# EAGLE library part M16C/26A(42PIN) (library renesas_mcu)
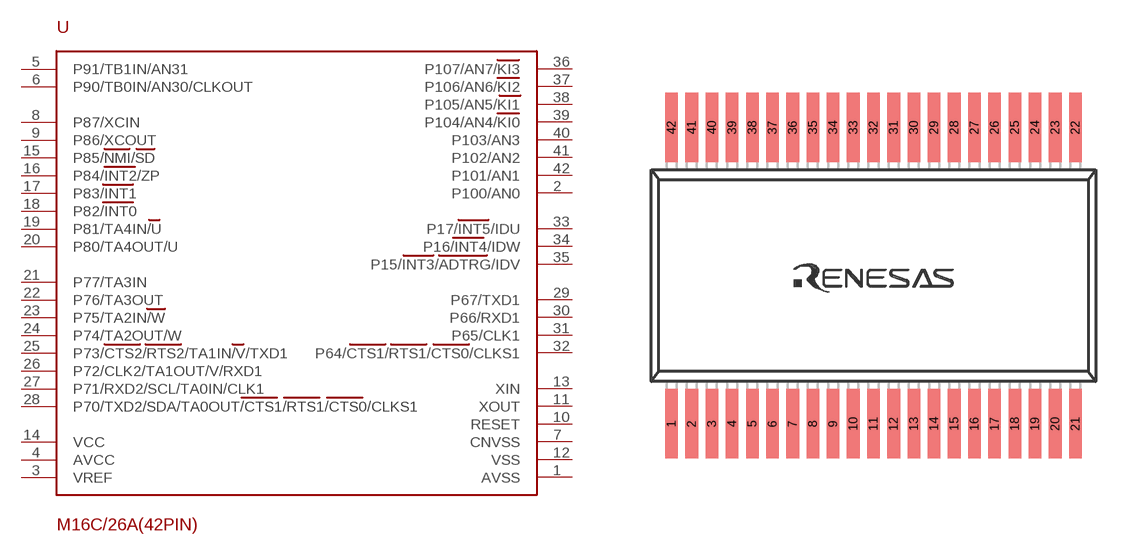
[diagram p85: symbol with the pads of 42P2R-E; footprint 42P2R-E]

Designator prefix -

## M16C/26A(42PIN)  [42P2R-E]
1  AVSS
2  P100/AN0
3  VREF
4  AVCC
5  P91/TB1IN/AN31
6  P90/TB0IN/AN30/CLKOUT
7  CNVSS
8  P87/XCIN
9  P86/XCOUT
10  RESET
11  XOUT
12  VSS
13  XIN
14  VCC
15  P85/NMI/SD
16  P84/INT2/ZP
17  P83/INT1
18  P82/INT0
19  P81/TA4IN/U
20  P80/TA4OUT/U
21  P77/TA3IN
22  P76/TA3OUT
23  P75/TA2IN/W
24  P74/TA2OUT/W
25  P73/CTS2/RTS2/TA1IN/V/TXD1
26  P72/CLK2/TA1OUT/V/RXD1
27  P71/RXD2/SCL/TA0IN/CLK1
28  P70/TXD2/SDA/TA0OUT/CTS1/RTS1/CTS0/CLKS1
29  P67/TXD1
30  P66/RXD1
31  P65/CLK1
32  P64/CTS1/RTS1/CTS0/CLKS1
33  P17/INT5/IDU
34  P16/INT4/IDW
35  P15/INT3/ADTRG/IDV
36  P107/AN7/KI3
37  P106/AN6/KI2
38  P105/AN5/KI1
39  P104/AN4/KI0
40  P103/AN3
41  P102/AN2
42  P101/AN1

## Footprint 42P2R-E (pad centres in mm)
smd 0.5 x 2.75: 1 -8,-5.875; 2 -7.2,-5.875; 3 -6.4,-5.875; 4 -5.6,-5.875; 5 -4.8,-5.875; 6 -4,-5.875; 7 -3.2,-5.875; 8 -2.4,-5.875; 9 -1.6,-5.875; 10 -0.8,-5.875; 11 0,-5.875; 12 0.8,-5.875; 13 1.6,-5.875; 14 2.4,-5.875; 15 3.2,-5.875; 16 4,-5.875; 17 4.8,-5.875; 18 5.6,-5.875; 19 6.4,-5.875; 20 7.2,-5.875; 21 8,-5.875; 22 8,5.875; 23 7.2,5.875; 24 6.4,5.875; 25 5.6,5.875; 26 4.8,5.875; 27 4,5.875; 28 3.2,5.875; 29 2.4,5.875; 30 1.6,5.875; 31 0.8,5.875; 32 0,5.875; 33 -0.8,5.875; 34 -1.6,5.875; 35 -2.4,5.875; 36 -3.2,5.875; 37 -4,5.875; 38 -4.8,5.875; 39 -5.6,5.875; 40 -6.4,5.875; 41 -7.2,5.875; 42 -8,5.875